# Altium schematic symbol library IRLMS_6802.Schlib: 1 symbol
Pins are listed as number, name and electrical type; pins without a type are passive.

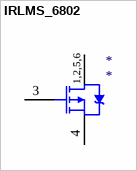
[diagram p0: symbol IRLMS_6802]

## IRLMS_6802
designator *
P channel MosFET
footprint SOT23-6
pins: 1 D, 2 D, 3 G, 4 S, 5 D, 6 D
text: 1,2,5,6